# Altium schematic symbol library symbols.SchLib: 6 symbols
Pins are listed as number, name and electrical type; pins without a type are passive.

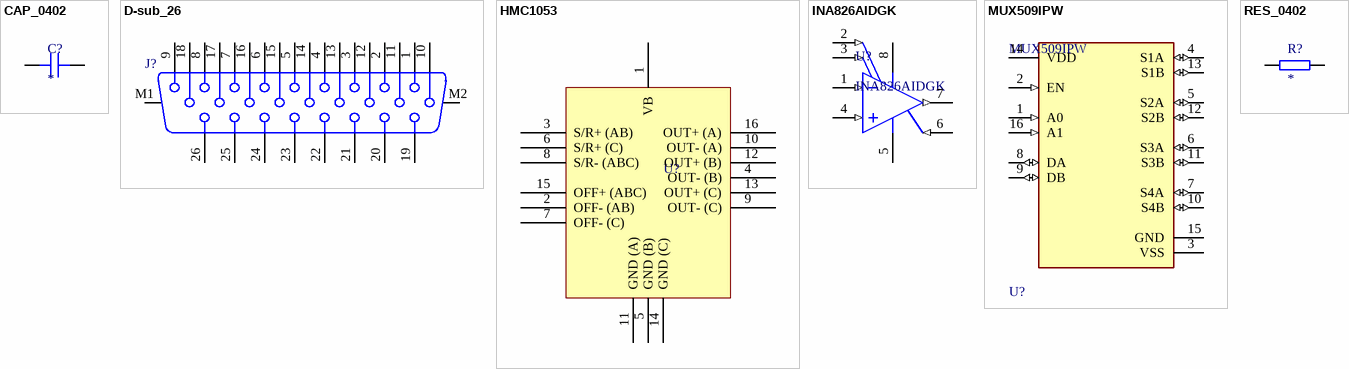
[diagram p0: symbols CAP_0402 to RES_0402]

## CAP_0402
designator C?
Capacitor SMD 0402; Voltage: 50V; Capacitance: *
footprint CAP_0402 (Chip Capacitor, 2-Leads, Body 1.02x0.51mm, IPC Medium Density)
pins: 1, 2

## D-sub_26
designator J?
Female High Density PCB Connector with Hex Screw WR-DSUB, Angled, 26 pins; Manufacturer: Wurth Elektronik; Part Number: 618026330923; Working Voltage: 60VAC; Pin Number: 26; Contact Resistance: 30mOhm; Rated Current: 3A; Gender: Female; Packaging: Tray; Datasheet URL: https://katalog.we-online.de/em/datasheet/6180xx330923.pdf; Package Reference: 618026330923; Publisher: WurthElektronik; Orientation: Angled; Manufacturer URL: http://www.we-online.de; Operating Temperature: -40to85degC; Mounting Technology: THT
footprint D-sub_26 (26 pins, right angled)
pins: 1, 2, 3, 4, 5, 6, 7, 8, 9, 10, 11, 12, 13, 14, 15, 16, 17, 18, 19, 20, 21, 22, 23, 24, 25, 26, M1, M2

## HMC1053
designator U?
3-axis magnetoresistive sensor; Manufacturer: Honeywell; Manufacturer Part Number: HMC1053; Operating Supply Voltage: 3V; Output Type: Wheatstone Bridge; Axis: X, Y, Z; Nominal Supply Current: 500mA; Min Supply Voltage: 1.8V; Max Supply Voltage: 20V; Bandwidth: 5MHz; Supplier 1: Newark; RoHS: No; Category: Magnetic Sensors; Case/Package: PLCC; Number of Pins: 16; Min Operating Temperature: -40°C; Max Operating Temperature: 125°C; Package Quantity: 66; Packaging: Tape and Reel; Sensing Method: Magnetoresistive; Length: 7.4mm; Width: 7.4mm; Height: 2.5mm; Radiation Hardening: No; ComponentLink1URL: https://datasheet.ciiva.com/15099/getdatasheetpartid-59250-15099355.pdf?src-supplier=Verical; ComponentLink1Description: https://datasheet.ciiva.com/15099/getdatasheetpartid-59250-15099355.pdf?src-supplier=Verical; ComponentLink2URL: https://datasheet.ciiva.com/2816/hmc-1051-1052-1053-data-sheet-2816521.pdf?src-supplier=Digi-Key; ComponentLink2Description: https://datasheet.ciiva.com/2816/hmc-1051-1052-1053-data-sheet-2816521.pdf?src-supplier=Digi-Key
footprint HMC1053
pins: 1 VB (power), 2 OFF- (AB), 3 S/R+ (AB), 4 OUT- (B), 5 GND (B) (power), 6 S/R+ (C), 7 OFF- (C), 8 S/R- (ABC), 9 OUT- (C), 10 OUT- (A), 11 GND (A) (power), 12 OUT+ (B), 13 OUT+ (C), 14 GND (C) (power), 15 OFF+ (ABC), 16 OUT+ (A)

## INA826AIDGK
designator U?
Precision, 200-uA Supply Current, 36-V Supply Instrumentation Amplifier, -40 to 125 degC, 8-pin SOP (DGK8), Green (RoHS & no Sb/Br); Manufacturer: Texas Instruments; Quiescent Current (+/-)(Typ)(mA): 0.2; Noise at 1kHz(Typ)(nV/rt(Hz)): 18; Input Offset (+/-)(Max)(uV): 150; Vs(Min)(V): 2.7; Number of Channels: 1; SubFamily: Single Supply; Output Offset Drift (+/-)(Max)(uV/Degrees Celsius): 10; Input Bias Current (+/-)(Max)(nA): 65; CMRR(Min)(dB): 84; Vs(Max)(V): 36; Non-Linearity (+/-)(Max)(%): 0.0005; Gain(V/V): 1 to 1000; Input Offset Drift (+/-)(Max)(uV/Degrees Celsius): 2; Output Offset (+/-)(Max)(uV): 700; Code_JEDEC: MO-187; PackageReference: DGK0008A; ComponentLink1Description: Manufacturer URL; ComponentLink3URL: http://www.ti.com/litv/pdf/mpds028d; PartNumber: INA826AIDGK; DatasheetVersion: SBOS562E; ComponentLink2Description: Datasheet; PackageDescription: 8-Pin Thin Small Outline, Body 3 x 3 mm, Pitch 0.65 mm; ComponentLink1URL: http://www.ti.com/; Mounting Technology: Surface Mount; ComponentLink2URL: http://www.ti.com/general/docs/lit/getliterature.tsp?genericPartNumber=INA826&fileType=pdf; ComponentLink3Description: Package Specification; Eco-Plan: Green (RoHS & no Sb/Br); PackageVersion: 4073329/E, 05/2006
footprint INA826AIDGK (TSOP, 8-Leads, Body 3.1x3.1mm, Pitch 0.65mm, IPC High Density)
pins: 1 IN- (in) "Negative input", 2 RG (in) "Gain setting pin. Place a gain resistor between pin 2 and pin 3.", 3 RG (in) "Gain setting pin. Place a gain resistor between pin 2 and pin 3.", 4 IN+ (in) "Positive input", 5 VS- (power) "Negative supply", 6 REF (in) "Reference input. This pin must be driven by low impedance.", 7 VOUT (out) "Output", 8 VS+ (power) "Positive supply"

## MUX509IPW
designator U?
IC MUX DUAL 4:1 170 OHM 16TSSOP; Number of Circuits: 4; Number of Channels: 2; On-State Resistance: 250R; Number of Pins: 16; Case/Package: TSSOP; Min Operating Temperature: -40°C; Max Operating Temperature: 125°C; REACH SVHC: No SVHC; RoHS Compliant: Yes; Packaging: Cut Tape; Lead Free: Lead Free
footprint MUX509IPW
pins: 1 A0 (in), 2 EN (in), 3 VSS (power), 4 S1A (io), 5 S2A (io), 6 S3A (io), 7 S4A (io), 8 DA (io), 9 DB (io), 10 S4B (io), 11 S3B (io), 12 S2B (io), 13 S1B (io), 14 VDD (power), 15 GND (power), 16 A1 (in)

## RES_0402
designator R?
Resistor SMD 0402; Resistance: *
footprint RES_0402 (Chip Resistor, 2-Leads, Body 1.0x0.5mm, IPC High Density)
pins: 1, 2